# Altium integrated library ON Semiconductor.IntLib: 22 symbols
Pins are listed as number, name and electrical type; pins without a type are passive.

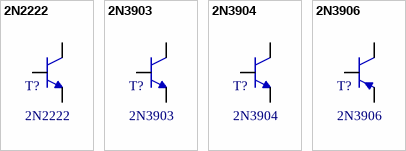
[diagram p0: symbols 2N2222 to 2N3906]

## 2N2222
designator T?
NPN Silicon Amplifier Transistors
footprint TO-92 BENT (BENT LEAD)
footprint TO-92 STRAIGHT (STRAIGHT LEAD)
pins: 1 C, 2 B, 3 E

## 2N3903
designator T?
NPN Silicon General Purpose Transistors
footprint TO-92 BENT (BENT LEAD)
footprint TO-92 STRAIGHT (STRAIGHT LEAD)
pins: 1 E, 2 B, 3 C

## 2N3904
designator T?
NPN Silicon General Purpose Transistors
footprint TO-92 BENT (BENT LEAD)
footprint TO-92 STRAIGHT (STRAIGHT LEAD)
pins: 1 E, 2 B, 3 C

## 2N3906
designator T?
PNP Silicon General Purpose Transistors
footprint TO-92 BENT (BENT LEAD)
footprint TO-92 STRAIGHT (STRAIGHT LEAD)
pins: 1 E, 2 B, 3 C


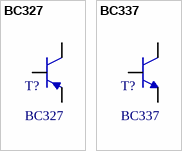
[diagram p1: symbols BC327 to BC337]

## BC327
designator T?
PNP Silicon Amplifier Transistors
footprint TO-92 BENT (BENT LEAD)
footprint TO-92 STRAIGHT (STRAIGHT LEAD)
pins: 1 C, 2 B, 3 E

## BC337
designator T?
NPN Silicon Amplifier Transistors
footprint TO-92 BENT (BENT LEAD)
footprint TO-92 STRAIGHT (STRAIGHT LEAD)
pins: 1 C, 2 B, 3 E


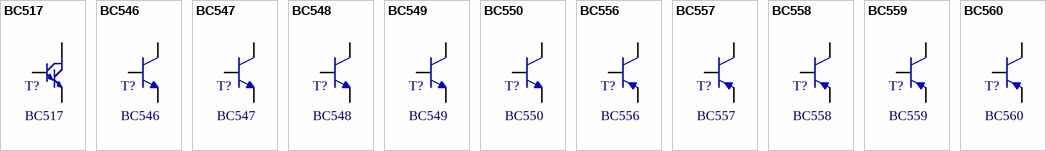
[diagram p2: symbols BC517 to BC560]

## BC517
designator T?
NPN Silicon Darlington Transistors
footprint TO-92 BENT (BENT LEAD)
footprint TO-92 STRAIGHT (STRAIGHT LEAD)
pins: 1 C, 2 B, 3 E

## BC546
designator T?
NPN Epitaxial Silicon Transistor
footprint TO-92 BENT (BENT LEAD)
footprint TO-92 STRAIGHT (STRAIGHT LEAD)
pins: 1 C, 2 B, 3 E

## BC547
designator T?
NPN Epitaxial Silicon Transistor
footprint TO-92 BENT (BENT LEAD)
footprint TO-92 STRAIGHT (STRAIGHT LEAD)
pins: 1 C, 2 B, 3 E

## BC548
designator T?
NPN Epitaxial Silicon Transistor
footprint TO-92 BENT (BENT LEAD)
footprint TO-92 STRAIGHT (STRAIGHT LEAD)
pins: 1 C, 2 B, 3 E

## BC549
designator T?
NPN Epitaxial Silicon Transistor
footprint TO-92 BENT (BENT LEAD)
footprint TO-92 STRAIGHT (STRAIGHT LEAD)
pins: 1 C, 2 B, 3 E

## BC550
designator T?
NPN Epitaxial Silicon Transistor
footprint TO-92 BENT (BENT LEAD)
footprint TO-92 STRAIGHT (STRAIGHT LEAD)
pins: 1 C, 2 B, 3 E

## BC556
designator T?
PNP Epitaxial Silicon Transistor
footprint TO-92 BENT (BENT LEAD)
footprint TO-92 STRAIGHT (STRAIGHT LEAD)
pins: 1 C, 2 B, 3 E

## BC557
designator T?
PNP Epitaxial Silicon Transistor
footprint TO-92 BENT (BENT LEAD)
footprint TO-92 STRAIGHT (STRAIGHT LEAD)
pins: 1 C, 2 B, 3 E

## BC558
designator T?
PNP Epitaxial Silicon Transistor
footprint TO-92 BENT (BENT LEAD)
footprint TO-92 STRAIGHT (STRAIGHT LEAD)
pins: 1 C, 2 B, 3 E

## BC559
designator T?
PNP Epitaxial Silicon Transistor
footprint TO-92 BENT (BENT LEAD)
footprint TO-92 STRAIGHT (STRAIGHT LEAD)
pins: 1 C, 2 B, 3 E

## BC560
designator T?
PNP Epitaxial Silicon Transistor
footprint TO-92 BENT (BENT LEAD)
footprint TO-92 STRAIGHT (STRAIGHT LEAD)
pins: 1 C, 2 B, 3 E


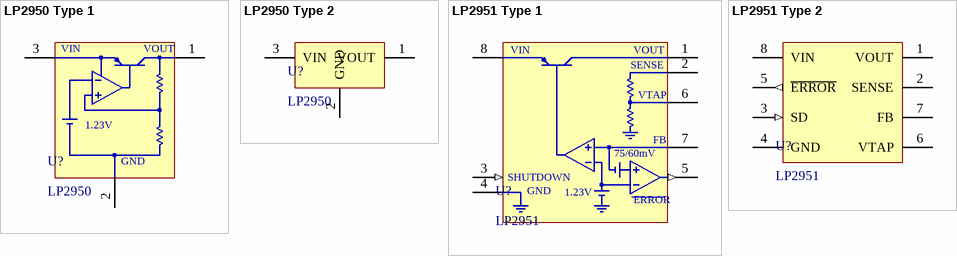
[diagram p3: symbols LP2950 Type 1 to LP2951 Type 2]

## LP2950 Type 1
designator U?, comment LP2950
Micropower Voltage Regulators with Shutdown
footprint TO-92 BENT (BENT LEAD)
footprint TO-92 STRAIGHT (STRAIGHT LEAD)
pins: 1 (power), 2 (power), 3 (power)
text: VIN; VOUT; 1.23V; GND

## LP2950 Type 2
designator U?, comment LP2950
Micropower Voltage Regulators with Shutdown
footprint TO-92 BENT (BENT LEAD)
footprint TO-92 STRAIGHT (STRAIGHT LEAD)
pins: 1 VOUT (power), 2 GND (power), 3 VIN (power)

## LP2951 Type 1
designator U?, comment LP2951
Micropower Voltage Regulators with Shutdown
footprint PDIP8
footprint SOIC8
pins: 1 VOUT (power), 2 SENSE, 3 SHUTDOWN (in), 4 GND (power), 5 ~{ERROR} (out), 6 VTAP, 7 FEEDBACK, 8 VIN (power)
text: FB; 75/60mV; 1.23V; ERROR

## LP2951 Type 2
designator U?, comment LP2951
Micropower Voltage Regulators with Shutdown
footprint PDIP8
footprint SOIC8
pins: 1 VOUT (power), 2 SENSE, 3 SD (in), 4 GND (power), 5 ~{ERROR} (out), 6 VTAP, 7 FB, 8 VIN (power)


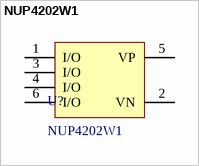
[diagram p4: symbol NUP4202W1]

## NUP4202W1
designator U?
ESD Protection Diodes with Low  Clamping Voltage
footprint SOT-363
pins: 1 I/O, 2 VN, 3 I/O, 4 I/O, 5 VP, 6 I/O